# EAGLE library part 87C751 (library PCA9545)
83C751/87C751 80C51 with I2C bus, 8-bit Microcontroller 2K/64 OTP/ROM
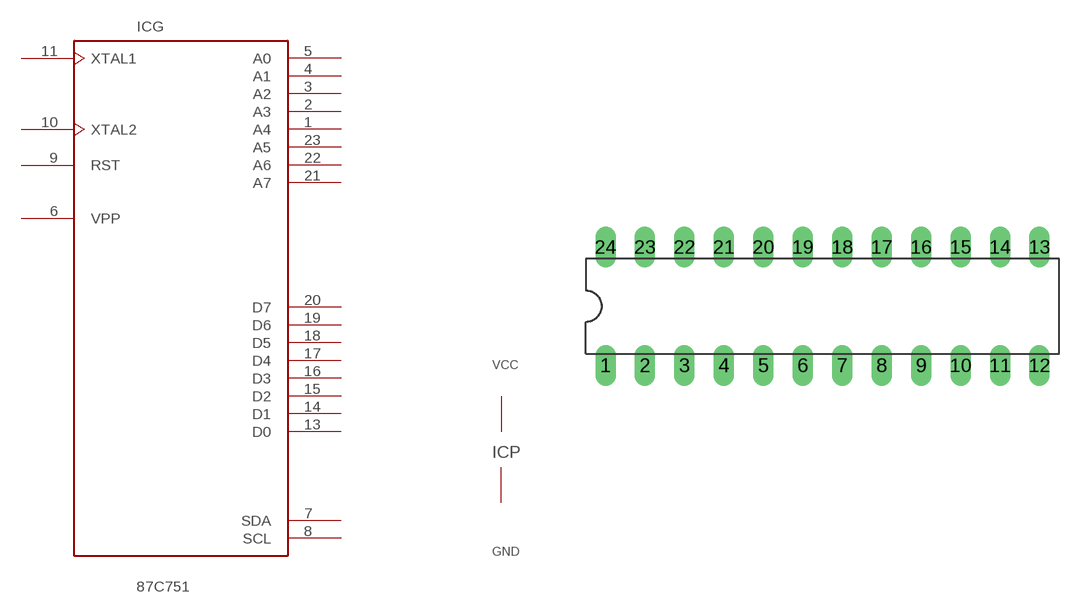
[diagram p19: symbol with the pads of DIP24SKI; footprint DIP24SKI]

Designator prefix IC; gates G=8XC751 P=PWR2

## 87C751 (OC_FARNELL: unknown; OC_NEWARK: unknown)  [DIP24SKI]
1  G:A4
2  G:A3
3  G:A2
4  G:A1
5  G:A0
6  G:VPP  pwr
7  G:SDA
8  G:SCL
9  G:RST  in
10  G:XTAL2  in
11  G:XTAL1  in
12  P:GND  pwr
13  G:D0
14  G:D1
15  G:D2
16  G:D3
17  G:D4
18  G:D5
19  G:D6
20  G:D7
21  G:A7
22  G:A6
23  G:A5
24  P:VCC  pwr

## Footprint DIP24SKI (pad centres in mm)
Dual In Line
drill 0.813 pad 1.27 long: 1 -11.43,-3.81; 2 -8.89,-3.81; 3 -6.35,-3.81; 4 -3.81,-3.81; 5 -1.27,-3.81; 6 1.27,-3.81; 7 3.81,-3.81; 8 6.35,-3.81; 9 8.89,-3.81; 10 11.43,-3.81; 11 13.97,-3.81; 12 16.51,-3.81; 13 16.51,3.81; 14 13.97,3.81; 15 11.43,3.81; 16 8.89,3.81; 17 6.35,3.81; 18 3.81,3.81; 19 1.27,3.81; 20 -1.27,3.81; 21 -3.81,3.81; 22 -6.35,3.81; 23 -8.89,3.81; 24 -11.43,3.81